# Altium schematic symbol library AD8221.SchLib: 1 symbol
Pins are listed as number, name and electrical type; pins without a type are passive.

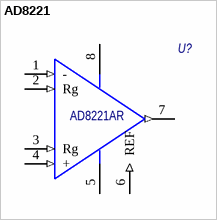
[diagram p0: symbol AD8221]

## AD8221
designator U?  Наименование: AD8221AR  (hidden comment: AD8221)
Precision Instrumentation Amplifier; Потребление, Вт: 0.01; Назначение: Precision Instrumentation Amplifier; ComponentLink1Description: DataSheet; ComponentLink1URL: https://www.analog.com/media/en/technical-documentation/data-sheets/AD8221.pdf
footprint MSOP-8
footprint SOIC-8
pins: 1 - (in), 2 Rg (in), 3 Rg (in), 4 + (in), 5 V- (power), 6 REF (in), 7 OUT (out), 8 V+ (power)